# EAGLE library part TXB0108 (library MotorDriver)
Voltage Level Converter
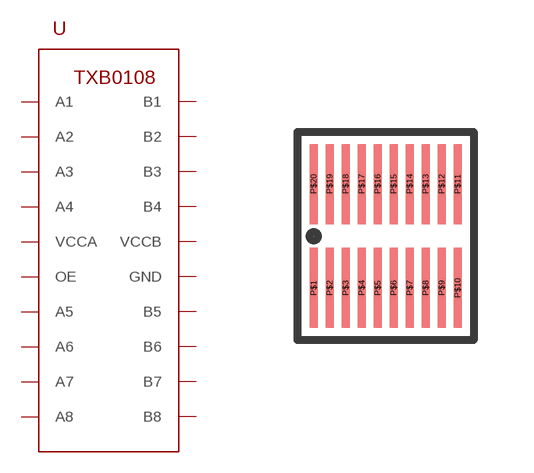
[diagram p5: symbol with the pads of USON-20; footprint USON-20]

Designator prefix U

## TXB0108/USON-20  [USON-20]
P$1  A1
P$2  A2
P$3  A3
P$4  A4
P$5  VCCA
P$6  OE
P$7  A5
P$8  A6
P$9  A7
P$10  A8
P$11  B8
P$12  B7
P$13  B6
P$14  B5
P$15  GND
P$16  VCCB
P$17  B4
P$18  B3
P$19  B2
P$20  B1

## Footprint USON-20 (pad centres in mm)
smd 0.2 x 2: P$1 -1.8,-1.3; P$2 -1.4,-1.3; P$3 -1,-1.3; P$4 -0.6,-1.3; P$5 -0.2,-1.3; P$6 0.2,-1.3; P$7 0.6,-1.3; P$8 1,-1.3; P$9 1.4,-1.3; P$10 1.8,-1.3; P$11 1.8,1.3; P$12 1.4,1.3; P$13 1,1.3; P$14 0.6,1.3; P$15 0.2,1.3; P$16 -0.2,1.3; P$17 -0.6,1.3; P$18 -1,1.3; P$19 -1.4,1.3; P$20 -1.8,1.3